# Altium footprint library Arduino Nano Version 3.1.PcbLib: 1 footprints
Each footprint in its own frame and in the unit in brackets; x right, y up, seen from the top. Pads: shape width x height; smd on the part's side, far side on the other; paste and mask are expansions set on the pad; w line width, h text height; cw(c..) or ccw(c..) is an arc to the next point about the centre after c.
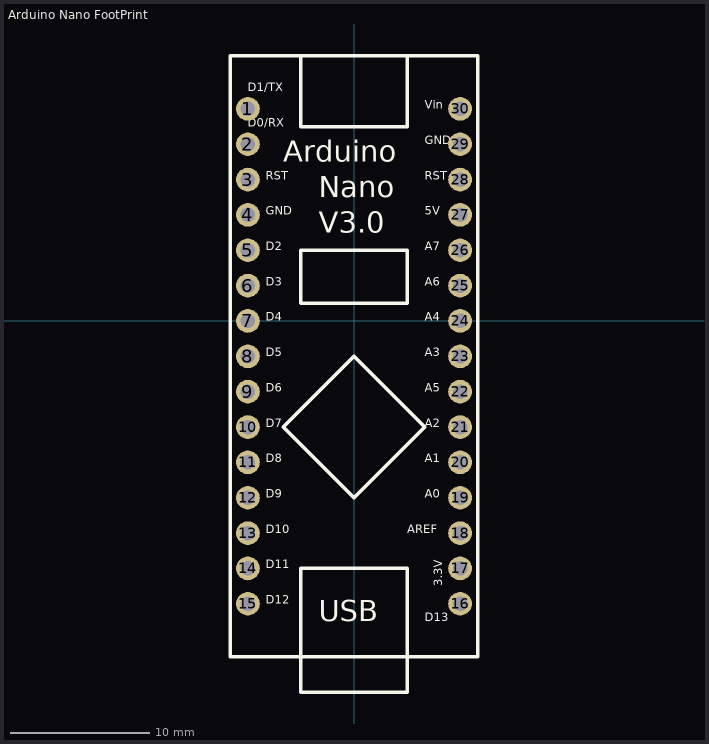
[diagram p0: the footprint, top view; thin cyan lines are the x and y axes]

## Arduino Nano FootPrint [mm]
pads (30):
  round 1.7 hole 1.04: 1(-7.62,15.24) 2(-7.62,12.7) 3(-7.62,10.16) 4(-7.62,7.62) 5(-7.62,5.08) 6(-7.62,2.54) 7(-7.62,0) 8(-7.62,-2.54) 9(-7.62,-5.08) 10(-7.62,-7.62) 11(-7.62,-10.16) 12(-7.62,-12.7) 13(-7.62,-15.24) 14(-7.62,-17.78) 15(-7.62,-20.32) 16(7.62,-20.32) 17(7.62,-17.78) 18(7.62,-15.24) 19(7.62,-12.7) 20(7.62,-10.16) 21(7.62,-7.62) 22(7.62,-5.08) 23(7.62,-2.54) 24(7.62,0) 25(7.62,2.54) 26(7.62,5.08) 27(7.62,7.62) 28(7.62,10.16) 29(7.62,12.7) 30(7.62,15.24)
Top Overlay:
  lines w0.254: -3.81,19.05 -3.81,13.97 3.81,13.97 3.81,19.05 ; -8.89,-24.13 -8.89,19.05 8.89,19.05 8.89,-24.13 -8.89,-24.13 ; -5.08,-7.62 0,-2.54 5.08,-7.62 0,-12.7 -5.08,-7.62 ; -3.81,-26.67 -3.81,-17.78 3.81,-17.78 3.81,-26.67 -3.81,-26.67 ; -3.81,1.27 3.81,1.27 3.81,5.08 -3.81,5.08 -3.81,1.27
  text "D12" at -6.35,-20.32 h0.6
  text "D11" at -6.35,-17.78 h0.6
  text "D10" at -6.35,-15.24 h0.6
  text "D9" at -6.35,-12.7 h0.6
  text "D8" at -6.35,-10.16 h0.6
  text "D7" at -6.35,-7.62 h0.6
  text "D6" at -6.35,-5.08 h0.6
  text "D5" at -6.35,-2.54 h0.6
  text "D4" at -6.35,0 h0.6
  text "D3" at -6.35,2.54 h0.6
  text "D2" at -6.35,5.08 h0.6
  text "GND" at -6.35,7.62 h0.6
  text "RST" at -6.35,10.16 h0.6
  text "D0/RX" at -7.62,13.97 h0.6
  text "D1/TX" at -7.62,16.51 h0.6
  text "D13" at 5.08,-21.59 h0.6
  text "3.3V" at 6.35,-19.05 h0.6
  text "AREF" at 3.81,-15.24 h0.6
  text "5V" at 5.08,7.62 h0.6
  text "RST" at 5.08,10.16 h0.6
  text "GND" at 5.08,12.7 h0.6
  text "Vin" at 5.08,15.24 h0.6
  text "A0" at 5.08,-12.7 h0.6
  text "A1" at 5.08,-10.16 h0.6
  text "A2" at 5.08,-7.62 h0.6
  text "A3" at 5.08,-2.54 h0.6
  text "A4" at 5.08,0 h0.6
  text "A5" at 5.08,-5.08 h0.6
  text "A6" at 5.08,2.54 h0.6
  text "A7" at 5.08,5.08 h0.6
  text "V3.0" at -2.54,6.35 h1.52
  text "Nano" at -2.54,8.89 h1.52
  text "Arduino" at -5.08,11.43 h1.52
  text "USB" at -2.54,-21.59 h1.52